# Altium schematic symbol library Schlib2.SchLib: 4 symbols
Pins are listed as number, name and electrical type; pins without a type are passive.

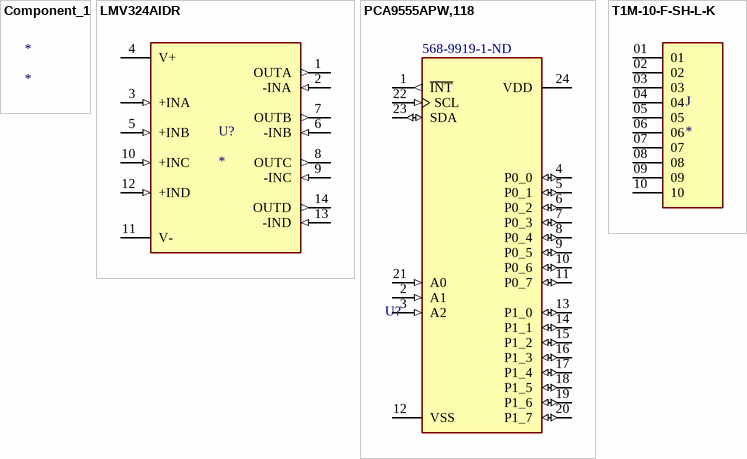
[diagram p0: symbols Component_1 to T1M-10-F-SH-L-K]

## Component_1
designator *

## LMV324AIDR
designator U?
LMV324A, Quad Low-Voltage Rail-to-Rail Output Operational Amplifier 14-SOIC -40 to 125; MP: LMV324AIDR; MF: Texas Instruments; Package: SOIC-14 Texas Instruments; Price: None; Availability: Warning; Value: *; Texas_Instruments-Purchase-URL: https://snapeda.com/shop?store=Texas+Instruments&id=3658521; Mouser-Purchase-URL: https://snapeda.com/shop?store=Mouser&id=3658521; SnapEDA_Link: https://www.snapeda.com/parts/LMV324AIDR/Texas%20Instruments/view-part/3658521/?ref=snap
footprint SOIC127P600X175-14N
pins: 1 OUTA (out), 2 -INA (in), 3 +INA (in), 4 V+ (power), 5 +INB (in), 6 -INB (in), 7 OUTB (out), 8 OUTC (out), 9 -INC (in), 10 +INC (in), 11 V- (power), 12 +IND (in), 13 -IND (in), 14 OUTD (out)

## PCA9555APW,118
designator U?, comment 568-9919-1-ND
Parallel I/O Port, 16-Bit, 16 I/O, CMOS, PDSO24; Manufacturer: NXP Semiconductors; Manufacturer Part Number: PCA9555APW,118; Package Body Material: Plastic; Number of Bits: 16; Number of Ports: 2; Package Equivalence Code: TSSOP24,.25; Power Supplies: 1.8/5V; Max Supply Voltage: 5.5V; Min Supply Voltage: 1.65V; Supply Voltage-Nom: 1.8V; Qualification Status: Not Qualified; Supplier 1: Digi-Key; RoHS: Yes; Category: Interface ICs; Stock 1: 2619; Pricing 1: 1=2.30000, 10=2.06600, 25=1.94920, 100=1.66060, 250=1.55924, 500=1.36434, 1000=1.23255 (USD); Package Code: TSSOP; Number of Pins: 24; Package Shape: Rectangular; Min Operating Temperature: -40°C; Max Operating Temperature: 85°C; JESD-30 Code: R-PDSO-G24; Moisture Sensitivity Level: 1; Number of I/O Lines: 16; Package Style: SMALL OUTLINE, THIN PROFILE, SHRINK PITCHMeter; Surface Mount: Yes; Technology: CMOS; Terminal Form: Gull Wing; Terminal Position: DUAL; Length: 7.8mm; Width: 4.4mm; Height - Seated (Max): 1.1mm; Terminal Pitch: 0.65mm; Temperature Grade: INDUSTRIAL; REACH SVHC: Yes; RoHS Compliant: Yes; ComponentLink1URL: https://datasheet.ciiva.com:443/pdfs/VipMasterIC/IC/PHGL/PHGL-S-A0001284358/PHGL-S-A0001284358-1.pdf?src-supplier=IHS+Markit; ComponentLink1Description: https://datasheet.ciiva.com:443/pdfs/VipMasterIC/IC/PHGL/PHGL-S-A0001284358/PHGL-S-A0001284358-1.pdf?src-supplier=IHS+Markit; ComponentLink2URL: https://datasheet.ciiva.com/6633/pca9555a-6633195.pdf?src-supplier=Digi-Key; ComponentLink2Description: https://datasheet.ciiva.com/6633/pca9555a-6633195.pdf?src-supplier=Digi-Key; Supplier Part Number 1: 568-9919-1-ND
footprint SOP65P640X110-24N
pins: 1 ~{INT} (out), 2 A1 (in), 3 A2 (in), 4 P0_0 (io), 5 P0_1 (io), 6 P0_2 (io), 7 P0_3 (io), 8 P0_4 (io), 9 P0_5 (io), 10 P0_6 (io), 11 P0_7 (io), 12 VSS (power), 13 P1_0 (io), 14 P1_1 (io), 15 P1_2 (io), 16 P1_3 (io), 17 P1_4 (io), 18 P1_5 (io), 19 P1_6 (io), 20 P1_7 (io), 21 A0 (in), 22 SCL (in), 23 SDA (io), 24 VDD (power)

## T1M-10-F-SH-L-K
designator J
MF: Samtec; MP: T1M-10-F-SH-L-K; Value: *; Package: None; Price: None; Availability: Unavailable
footprint SAMTEC_T1M-10-F-SH-L-K
pins: 01, 02, 03, 04, 05, 06, 07, 08, 09, 10